# EAGLE library part AMBIMATE_VOC (library Tilmann)
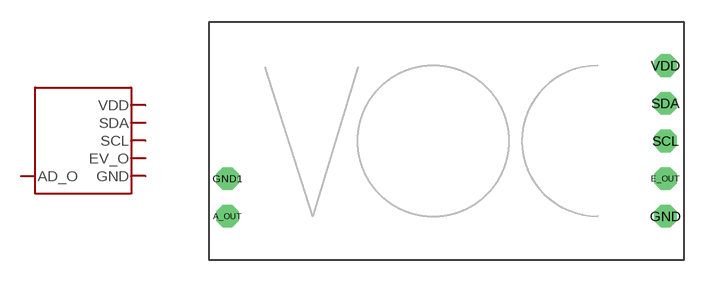
[diagram p6: symbol with the pads of AMBIMATE-VOC; footprint AMBIMATE-VOC]

Designator prefix -

## AMBIMATE_VOC  [AMBIMATE-VOC]
A_OUT  AD_O  out
E_OUT  EV_O  out
GND  GND  sup
GND1  GND  sup
SCL  SCL
SDA  SDA
VDD  VDD  sup

## Footprint AMBIMATE-VOC (pad centres in mm)
drill 1.02 octagon: A_OUT -14.74,-5.08; E_OUT 14.74,-2.54; GND 14.74,-5.08; GND1 -14.74,-2.54; SCL 14.74,0; SDA 14.74,2.54; VDD 14.74,5.08